# EAGLE library part JST-ZH8 (library moteus_n1)
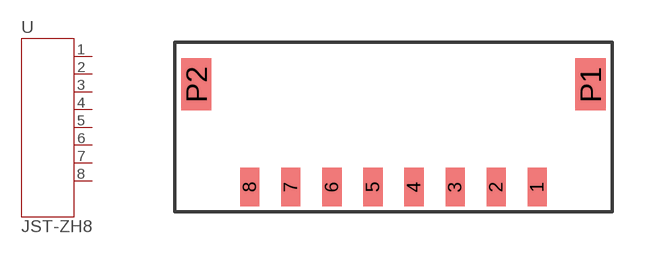
[diagram p4: symbol with the pads of JST_S8B-ZR-SM4A-TF(LF)(SN); footprint JST_S8B-ZR-SM4A-TF(LF)(SN)]

Designator prefix -

## JST-ZH8RA_SMT  [JST_S8B-ZR-SM4A-TF(LF)(SN)]
1  1  pas
2  2  pas
3  3  pas
4  4  pas
5  5  pas
6  6  pas
7  7  pas
8  8  pas

## Footprint JST_S8B-ZR-SM4A-TF(LF)(SN) (pad centres in mm)
smd 0.7 x 1.4: 1 5.25,0; 2 3.75,0; 3 2.25,0; 4 0.75,0; 5 -0.75,0; 6 -2.25,0; 7 -3.75,0; 8 -5.25,0
smd 1.1 x 1.9: P1 7.2,3.75; P2 -7.2,3.75